# EAGLE library part EXB-2HV102JV (library Panasonic)
Chip Resistor Array Datasheet: http://www.panasonic.com/industrial/includes/pdf/AOC0000CE1.pdf
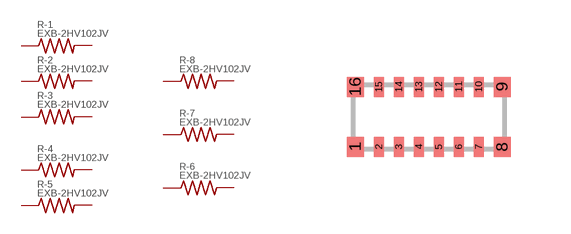
[diagram p0: symbol with the pads of EXB-2HV102JV; footprint EXB-2HV102JV]

Designator prefix R; gates -1=RESISTOR -2=RESISTOR -3=RESISTOR -4=RESISTOR -5=RESISTOR -6=RESISTOR -7=RESISTOR -8=RESISTOR

## EXB-2HV102JV  [EXB-2HV102JV]
1  -1:1  pas
2  -2:1  pas
3  -3:1  pas
4  -4:1  pas
5  -5:1  pas
6  -6:1  pas
7  -7:1  pas
8  -8:1  pas
9  -8:2  pas
10  -7:2  pas
11  -6:2  pas
12  -5:2  pas
13  -4:2  pas
14  -3:2  pas
15  -2:2  pas
16  -1:2  pas

## Footprint EXB-2HV102JV (pad centres in mm)
from http://www.panasonic.com/industrial/includes/pdf/AOC0000CE1.pdf
smd 0.425 x 0.5: 1 -1.837,-0.75; 8 1.837,-0.75; 9 1.837,0.75; 16 -1.837,0.75
smd 0.25 x 0.5: 2 -1.25,-0.75; 3 -0.75,-0.75; 4 -0.25,-0.75; 5 0.25,-0.75; 6 0.75,-0.75; 7 1.25,-0.75; 10 1.25,0.75; 11 0.75,0.75; 12 0.25,0.75; 13 -0.25,0.75; 14 -0.75,0.75; 15 -1.25,0.75